# Altium footprint library Dzr_PcbLib.PcbLib: 1 footprints
Each footprint in its own frame and in the unit in brackets; x right, y up, seen from the top. Pads: shape width x height; smd on the part's side, far side on the other; paste and mask are expansions set on the pad; w line width, h text height; cw(c..) or ccw(c..) is an arc to the next point about the centre after c.
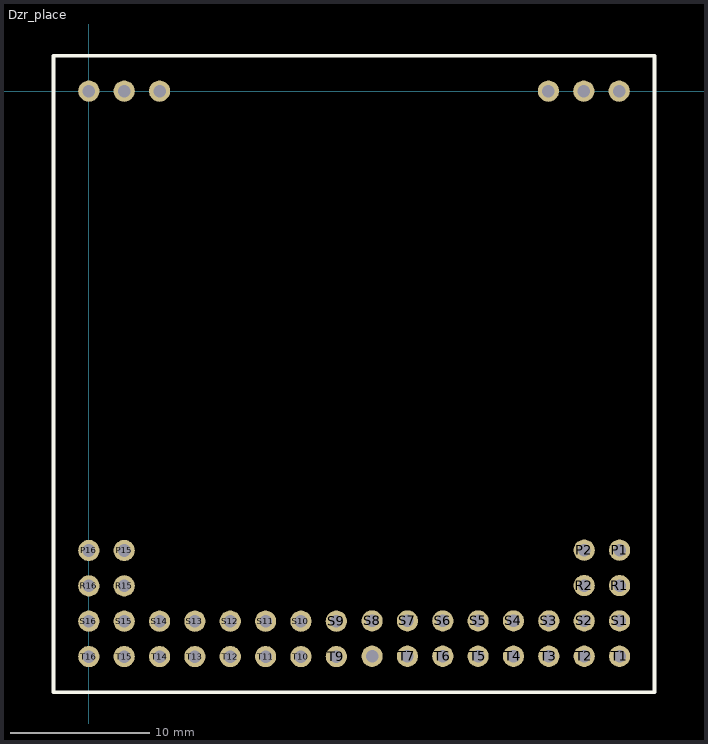
[diagram p0: the footprint, top view; thin cyan lines are the x and y axes]

## Dzr_place [mil]
pads (46):
  round 60 hole 35.43: P1(1501.14,-1298.36) P2(1401.14,-1298.36) P15(100,-1299.21) P16(0,-1299.21) R1(1501.14,-1398.36) R2(1401.14,-1398.36) R15(100,-1399.21) R16(0,-1399.21) S1(1501.14,-1498.36) S2(1401.14,-1498.36) S3(1301.14,-1498.36) S4(1201.14,-1498.36) S5(1101.14,-1498.36) S6(1001.14,-1498.36) S7(901.14,-1498.36) S8(801.14,-1498.36) S9(700,-1499.21) S10(600,-1499.21) S11(500,-1499.21) S12(400,-1499.21) S13(300,-1499.21) S14(200,-1499.21) S15(100,-1499.21) S16(0,-1499.21) T1(1501.14,-1598.36) T2(1401.14,-1598.36) T3(1301.14,-1598.36) T4(1201.14,-1598.36) T5(1101.14,-1598.36) T6(1001.14,-1598.36) T7(901.14,-1598.36) T9(700,-1599.21) T10(600,-1599.21) T11(500,-1599.21) T12(400,-1599.21) T13(300,-1599.21) T14(200,-1599.21) T15(100,-1599.21) T16(0,-1599.21) ""(0,0) ""(100,0) ""(200,0) ""(801.14,-1598.36) ""(1300,0) ""(1400,0) ""(1500,0)
Top Overlay:
  lines w10: -100,-1700 -100,100 1600,100 1600,-1700 -100,-1700